# EAGLE library part CH9340C (library IC & Transistor)
CH9340C USB to UART Converter Created by: Wai Weng
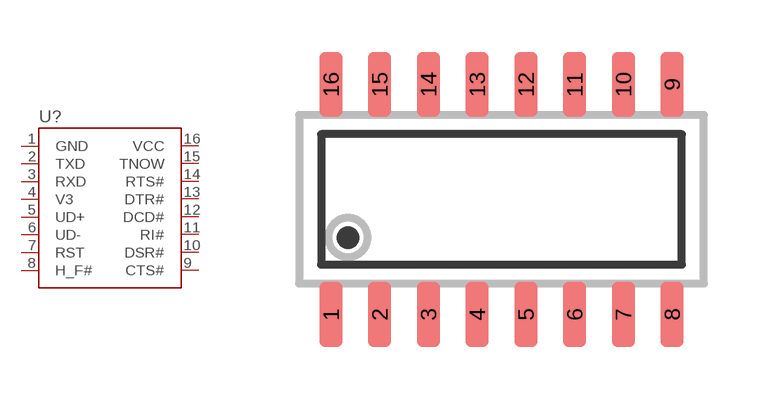
[diagram p98: symbol with the pads of SOIC-16N; footprint SOIC-16N]

Designator prefix U?

## CH9340C (DESC: S CH9340C USB UART SOIC16; MF: WCH; MPN: CH9340C)  [SOIC-16N]
1  GND  pwr
2  TXD
3  RXD
4  V3
5  UD+
6  UD-
7  RST
8  H_F#
9  CTS#
10  DSR#
11  RI#
12  DCD#
13  DTR#
14  RTS#
15  TNOW
16  VCC  pwr

## Footprint SOIC-16N (pad centres in mm)
Small Outline Integrated Circuit (SOIC) Narrow (JEDEC) SOIC Package Size: 9.90 x 3.90mm / 10.55 x 4.4mm Lead Pitch: 1.27mm Created by: OoiBP
smd 0.6 x 1.7: 1 -4.445,-3; 2 -3.175,-3; 3 -1.905,-3; 4 -0.635,-3; 5 0.635,-3; 6 1.905,-3; 7 3.175,-3; 8 4.445,-3; 9 4.445,3; 10 3.175,3; 11 1.905,3; 12 0.635,3; 13 -0.635,3; 14 -1.905,3; 15 -3.175,3; 16 -4.445,3